# Altium footprint library bee_hive_PcbLib1.PcbLib: 1 footprints
Each footprint in its own frame and in the unit in brackets; x right, y up, seen from the top. Pads: shape width x height; smd on the part's side, far side on the other; paste and mask are expansions set on the pad; w line width, h text height; cw(c..) or ccw(c..) is an arc to the next point about the centre after c.
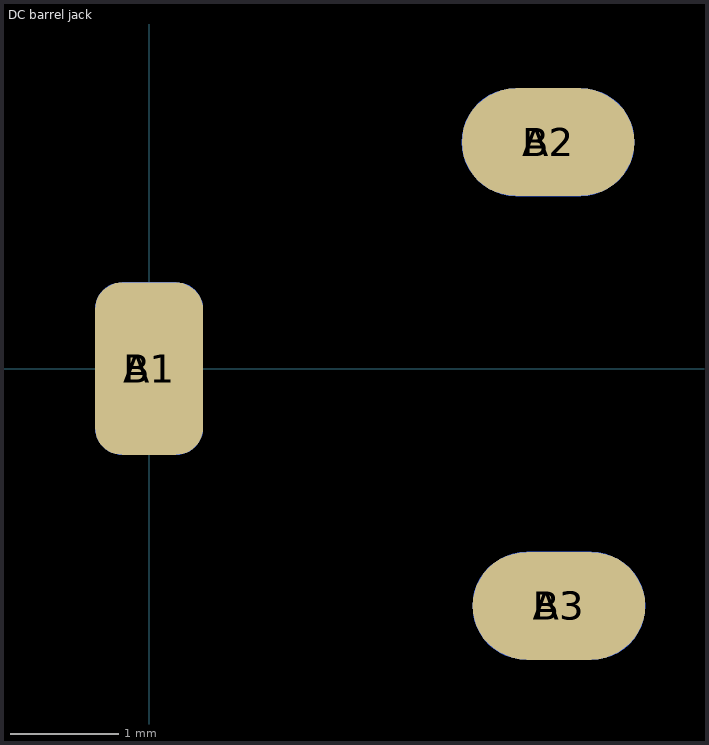
[diagram p0: the footprint, top view; thin cyan lines are the x and y axes]

## DC barrel jack [mm]
pads (6):
  rrect50% 1x1.6 smd paste+0.02 mask+0.102: A1(0,0)
  oval 1.6x1 smd paste+0.02: A2(3.7,2.1) A3(3.8,-2.2)
  rrect50% 1x1.6 smd far side paste+0.02 mask+0.102: B1(0,0)
  oval 1.6x1 smd far side paste+0.02: B2(3.7,2.1) B3(3.8,-2.2)